# EAGLE library part SN74AVC4T774PW (library SparkFun-IC-Comms)
Texas Instruments,SN74AVC4T774PW,IC, Texas Instruments SN74AVC4T774PW, Dual, Bus Transceiver, 4-Bit Non-Inverting 3-State, 1.2 3.6 V, 16-Pin TSSOP Source: Datasheet <http://www.ti.com/lit/ds/symlink/sn74avc4t774.pdf>
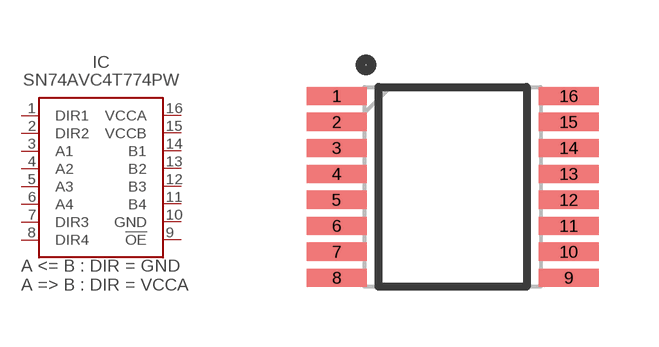
[diagram p18: symbol with the pads of SOP65P640X120-16N; footprint SOP65P640X120-16N]

Designator prefix IC

## SN74AVC4T774PW (PROD_ID: IC-15360; VALUE: SN74AVC4T774PW)  [SOP65P640X120-16N]
1  DIR1  in
2  DIR2  in
3  A1
4  A2
5  A3
6  A4
7  DIR3  in
8  DIR4  in
9  !OE  in
10  GND  pwr
11  B4
12  B3
13  B2
14  B1
15  VCCB  pwr
16  VCCA  pwr

## Footprint SOP65P640X120-16N (pad centres in mm)
PW0016A
smd 1.5 x 0.45: 1 -2.9,2.275; 2 -2.9,1.625; 3 -2.9,0.975; 4 -2.9,0.325; 5 -2.9,-0.325; 6 -2.9,-0.975; 7 -2.9,-1.625; 8 -2.9,-2.275; 9 2.9,-2.275; 10 2.9,-1.625; 11 2.9,-0.975; 12 2.9,-0.325; 13 2.9,0.325; 14 2.9,0.975; 15 2.9,1.625; 16 2.9,2.275